# EAGLE library part 61204022121 (library Wire_to_Board_Connectors_rev15d)
WR-BHD 2.54mm Male Angled Box Header With Lever, 40 Pins=>Code : Con_WTB_BHD_2.54_Male_THT_WS_61204022121 <http://katalog.we-online.de/media/thumbs2/eican/thb_Con_WTB_BHD_2.54_Male_THT_WS_6120xx22121_pf2.jpg> Details see: http://katalog.we-online.de/en/em/612_0xx_221_21 Created 2014-06-05, Karrer Zheng 2014 (C) Würth Elektronik
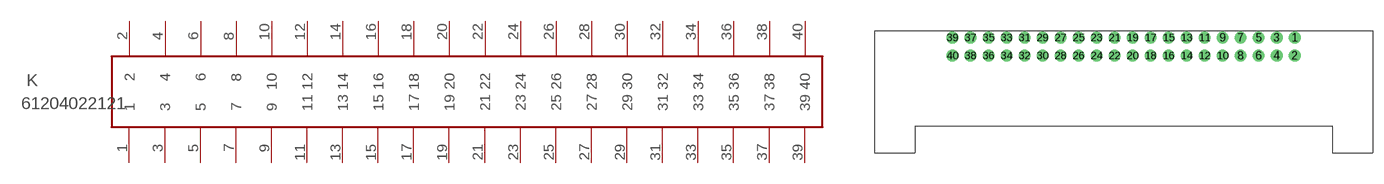
[diagram p187: symbol with the pads of 61204022121; footprint 61204022121]

Designator prefix K

## 61204022121  [61204022121]
1  1  pas
2  2  pas
3  3  pas
4  4  pas
5  5  pas
6  6  pas
7  7  pas
8  8  pas
9  9  pas
10  10  pas
11  11  pas
12  12  pas
13  13  pas
14  14  pas
15  15  pas
16  16  pas
17  17  pas
18  18  pas
19  19  pas
20  20  pas
21  21  pas
22  22  pas
23  23  pas
24  24  pas
25  25  pas
26  26  pas
27  27  pas
28  28  pas
29  29  pas
30  30  pas
31  31  pas
32  32  pas
33  33  pas
34  34  pas
35  35  pas
36  36  pas
37  37  pas
38  38  pas
39  39  pas
40  40  pas

## Footprint 61204022121 (pad centres in mm)
WR-BHD 2.54mm Male Angled Box Header With Lever,40 Pins
drill 1.1: 1 5.08,1.27; 2 5.08,-1.27; 3 2.54,1.27; 4 2.54,-1.27; 5 0,1.27; 6 0,-1.27; 7 -2.54,1.27; 8 -2.54,-1.27; 9 -5.08,1.27; 10 -5.08,-1.27; 11 -7.62,1.27; 12 -7.62,-1.27; 13 -10.16,1.27; 14 -10.16,-1.27; 15 -12.7,1.27; 16 -12.7,-1.27; 17 -15.24,1.27; 18 -15.24,-1.27; 19 -17.78,1.27; 20 -17.78,-1.27; 21 -20.32,1.27; 22 -20.32,-1.27; 23 -22.86,1.27; 24 -22.86,-1.27; 25 -25.4,1.27; 26 -25.4,-1.27; 27 -27.94,1.27; 28 -27.94,-1.27; 29 -30.48,1.27; 30 -30.48,-1.27; 31 -33.02,1.27; 32 -33.02,-1.27; 33 -35.56,1.27; 34 -35.56,-1.27; 35 -38.1,1.27; 36 -38.1,-1.27; 37 -40.64,1.27; 38 -40.64,-1.27; 39 -43.18,1.27; 40 -43.18,-1.27